# Altium integrated library radio.IntLib: 2 symbols
Pins are listed as number, name and electrical type; pins without a type are passive.

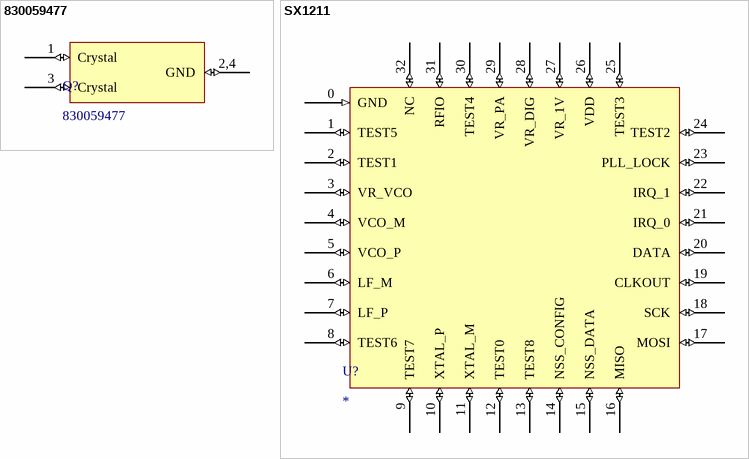
[diagram p0: symbols 830059477 to SX1211]

## 830059477
designator Q?
footprint crystal
pins: 1 Crystal (io), 2,4 GND (io), 3 Crystal (io)

## SX1211
designator U?
footprint QFN50P500X500X80_HS-33N (QFN, 32-Leads, Body 5.00x5.00mm, Pitch 0.50mm, Thermal Pad 3.10x3.10mm, IPC Medium Density)
pins: 0 GND (in), 1 TEST5 (io), 2 TEST1 (io), 3 VR_VCO (io), 4 VCO_M (io), 5 VCO_P (io), 6 LF_M (io), 7 LF_P (io), 8 TEST6 (io), 9 TEST7 (io), 10 XTAL_P (io), 11 XTAL_M (io), 12 TEST0 (io), 13 TEST8 (io), 14 NSS_CONFIG (io), 15 NSS_DATA (io), 16 MISO (io), 17 MOSI (io), 18 SCK (io), 19 CLKOUT (io), 20 DATA (io), 21 IRQ_0 (io), 22 IRQ_1 (io), 23 PLL_LOCK (io), 24 TEST2 (io), 25 TEST3 (io), 26 VDD (io), 27 VR_1V (io), 28 VR_DIG (io), 29 VR_PA (io), 30 TEST4 (io), 31 RFIO (io), 32 NC (io)